# Altium footprint library transistor-power.PCBLIB: 90 footprints (part 6 of 6)
Each footprint in its own frame and in the unit in brackets; x right, y up, seen from the top. Pads: shape width x height; smd on the part's side, far side on the other; paste and mask are expansions set on the pad; w line width, h text height; cw(c..) or ccw(c..) is an arc to the next point about the centre after c.
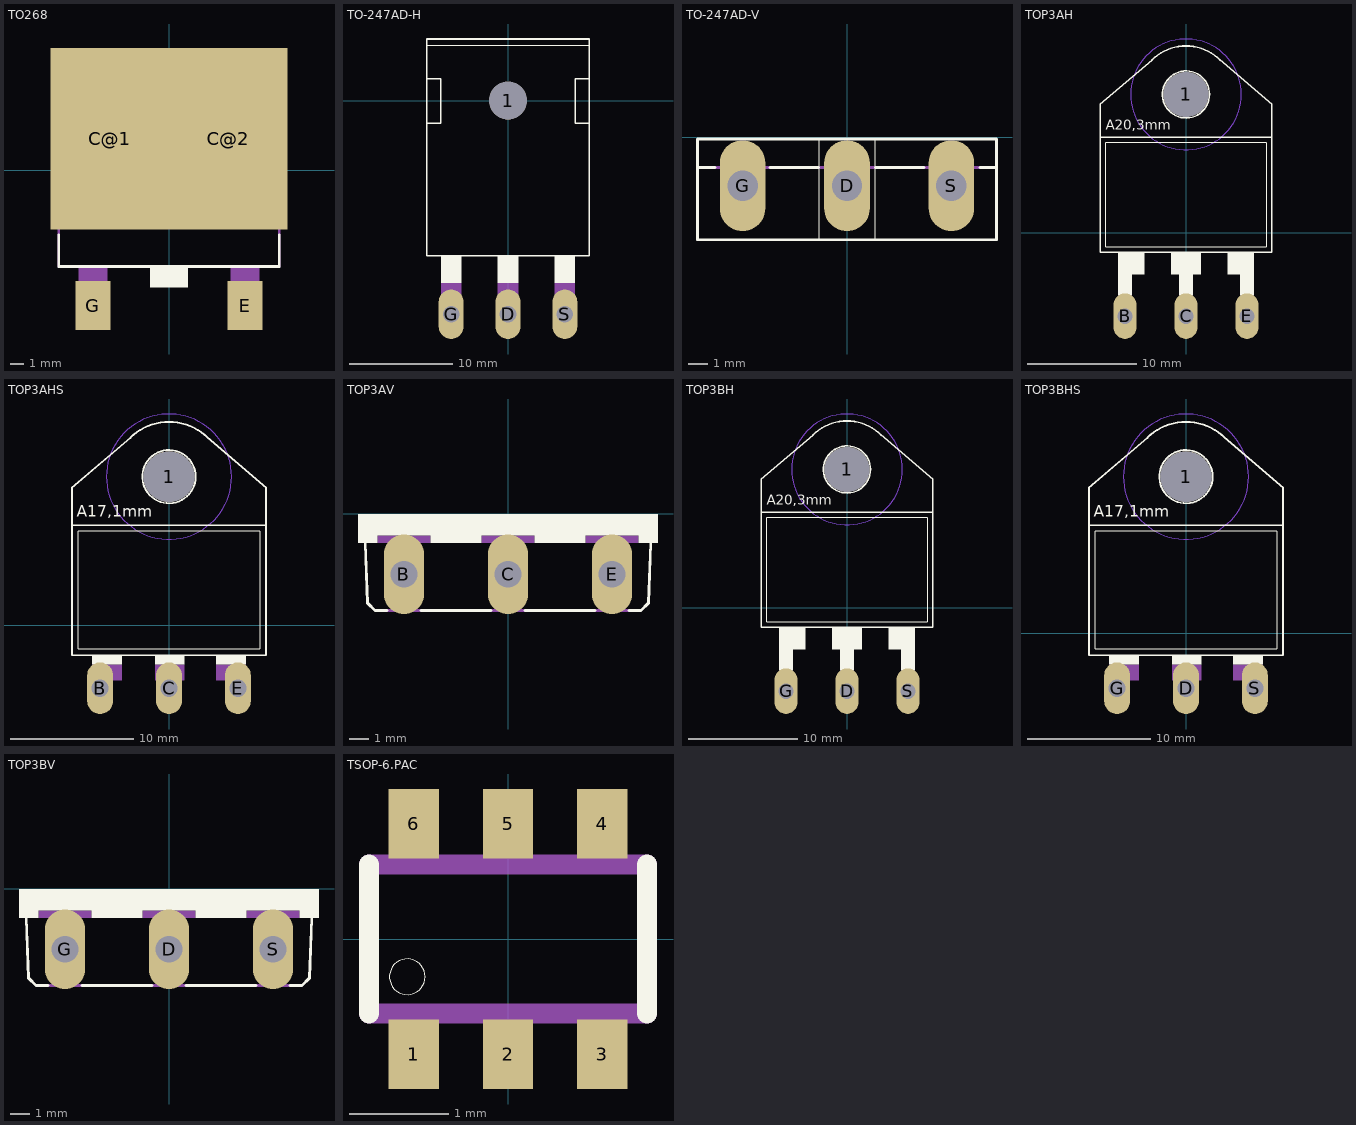
[diagram p5: the footprints below, top view; thin cyan lines are the x and y axes]

## TO268 [mm]
pads (4):
  rect 8.5x13 smd: C@1(-4.25,2.25) C@2(4.25,2.25)
  rect 2.5x3.5 smd: E(5.45,-9.7) G(-5.45,-9.7)
Top Overlay:
  rectangle: -1.35,-8.4 1.35,-7
  lines w0.203: -7.9,-4.65 -7.9,-6.9 7.9,-6.9 7.9,-4.65
Mechanical 16:
  rectangle: -6.5,-8.4 -4.4,-7
  rectangle: 4.4,-8.4 6.5,-7
  rectangle: 4.4,-11.1 6.5,-8.4
  rectangle: -6.5,-11.1 -4.4,-8.4
  lines w0.203: -7.9,-6.9 -7.9,5.3 ; 7.9,-6.9 7.9,5.3 ; -7.9,5.3 -7,6.9 6.95,6.9 7.9,5.3 ; -7.9,5.3 -7.9,6.9 -7.2,8.05 7.2,8.05 7.9,6.9 7.9,5.3

## TO-247AD-H [mil]
pads (4):
  round 143.7 hole 143.7: 1(0,0)
  oval 94.48x188.97 hole 62.99: D(0,-812.99) G(-216.54,-812.99) S(216.54,-812.99)
Top Overlay:
  rectangle: 177.17,-694.88 255.91,-590.55
  rectangle: -39.37,-694.88 39.37,-590.55
  rectangle: -255.91,-694.88 -177.17,-590.55
  lines w2: -307.87,209.45 307.87,209.45
  lines w6: -310,-86.18 -310,-590.55 310,-590.55 310,-86.18 ; -310,-86.18 -310,83.5 ; -310,-86.18 -255.91,-86.18 -255.91,83.5 -310,83.5 ; -310,83.5 -310,234.45 310,234.45 310,83.5 ; 310,-86.18 255.91,-86.18 255.91,83.5 310,83.5 ; 310,-86.18 310,83.5
Mechanical 16:
  rectangle: -255.91,-774.92 -177.17,-694.88
  rectangle: -245,-812.99 -187.01,-774.92
  rectangle: -39.37,-774.92 39.37,-694.92
  rectangle: -25,-812.99 25,-774.92
  rectangle: 177.17,-774.92 255.91,-694.92
  rectangle: 187.01,-812.99 245,-774.92

## TO-247AD-V [mil]
pads (3):
  oval 94.48x188.97 hole 62.99: D(0,-100) G(-216.54,-100) S(216.54,-100)
Top Overlay:
  lines w2.5: -59.06,-210.24 -59.06,-62.6 -59.06,-1.57 ; 59.06,-210.24 59.06,-62.6 59.06,-1.57
  lines w6: -307.09,-62.6 -273.62,-62.6 ; -159.45,-62.6 -59.06,-62.6 ; 59.06,-62.6 159.45,-62.6 ; 275.59,-62.6 309.06,-62.6 ; -310,-212.2 -310,-3.54 310,-3.54 310,-212.2 -310,-212.2
Mechanical 16:
  rectangle: -255.91,-115.75 -177.17,-84.25
  rectangle: -39.37,-115.75 39.37,-84.25
  rectangle: 177.17,-115.75 255.91,-84.25
  lines w6: -310,-62.6 310,-62.6

## TOP3AH [mil]
pads (4):
  round 162 hole 162: 1(0,500)
  oval 82.5x165 hole 55: B(-220,-300) C(0,-300) E(220,-300)
Bottom Layer keep-out:
  circle w0: c0,500 r200
Top Overlay:
  circle w6: c0,500 r85
  rectangle: -245,-150 -150,-70
  rectangle: -55,-150 55,-70
  rectangle: 150,-150 245,-70
  rectangle: -245,-225 -195,-150
  rectangle: -25,-225 25,-150
  rectangle: 195,-225 245,-150
  lines w2: -290,-50 290,-50 290,325 -290,325 -290,-50
  lines w6: -123.74,623.74 cw(c0.01,500) 0,675 cw(c-0.01,500) 123.74,623.74 ; -123,624 -310,465 -310,345 ; 123,625 310,465 310,345 ; -310,345 -310,-70 310,-70 310,345 ; -310,345 310,345
  text "A20,3mm" at -290,360 h62
Mechanical 16:
  rectangle: -245,-300 -195,-225
  rectangle: -25,-300 25,-225
  rectangle: 195,-300 245,-225
Via Holes:
  circle w0: c0,500 r200

## TOP3AHS [mil]
pads (4):
  round 162 hole 162: 1(0,475)
  oval 82.5x165 hole 55: B(-220,-200) C(0,-200) E(220,-200)
Bottom Layer keep-out:
  circle w0: c0,475 r200
Top Overlay:
  circle w6: c0,475 r85
  rectangle: -245,-125 -150,-95
  rectangle: -45,-125 50,-95
  rectangle: 150,-125 245,-95
  lines w2: -290,-75 290,-75 290,300 -290,300 -290,-75
  lines w6: -123.74,598.74 cw(c0.01,475) 0,650 cw(c-0.01,475) 123.74,598.74 ; -123,599 -310,440 -310,320 ; 123,600 310,440 310,320 ; -310,320 -310,-95 310,-95 310,320 ; -310,320 310,320
  text "A17,1mm" at -295,335 h62
Mechanical 16:
  rectangle: -245,-200 -195,-165
  rectangle: -25,-200 25,-165
  rectangle: 195,-200 245,-165
  rectangle: -245,-175 -150,-125
  rectangle: -45,-175 50,-125
  rectangle: 150,-175 245,-125
Via Holes:
  circle w0: c0,475 r200

## TOP3AV [mil]
pads (3):
  oval 82.5x165 hole 55: B(-215,-125) C(0,-125) E(215,-125)
Top Overlay:
  rectangle: -310,-45 310,0
  rectangle: -310,-60 -270,-45
  rectangle: -160,-60 -55,-45
  rectangle: 55,-60 160,-45
  rectangle: 270,-60 310,-45
  lines w6: -295,-60 -290,-185 -275,-200 -250,-200 ; -180,-200 -35,-200 ; 35,-200 180,-200 ; 250,-200 275,-200 290,-185 295,-60
Mechanical 16:
  rectangle: -270,-60 -160,-45
  rectangle: -55,-60 55,-45
  rectangle: 160,-60 270,-45
  lines w6: -250,-200 -180,-200 ; -35,-200 35,-200 ; 180,-200 250,-200

## TOP3BH [mil]
pads (4):
  round 162 hole 162: 1(0,500)
  oval 82.5x165 hole 55: D(0,-300) G(-220,-300) S(220,-300)
Bottom Layer keep-out:
  circle w0: c0,500 r200
Top Overlay:
  circle w6: c0,500 r85
  rectangle: -245,-150 -150,-70
  rectangle: -55,-150 55,-70
  rectangle: 150,-150 245,-70
  rectangle: -245,-225 -195,-150
  rectangle: -25,-225 25,-150
  rectangle: 195,-225 245,-150
  lines w2: -290,-50 290,-50 290,325 -290,325 -290,-50
  lines w6: -123.74,623.74 cw(c0.01,500) 0,675 cw(c-0.01,500) 123.74,623.74 ; -123,624 -310,465 -310,345 ; 123,625 310,465 310,345 ; -310,345 -310,-70 310,-70 310,345 ; -310,345 310,345
  text "A20,3mm" at -290,360 h62
Mechanical 16:
  rectangle: -245,-300 -195,-225
  rectangle: -25,-300 25,-225
  rectangle: 195,-300 245,-225
Via Holes:
  circle w0: c0,500 r200

## TOP3BHS [mil]
pads (4):
  round 162 hole 162: 1(0,500)
  oval 82.5x165 hole 55: D(0,-175) G(-220,-175) S(220,-175)
Bottom Layer keep-out:
  circle w0: c0,500 r200
Top Overlay:
  circle w6: c0,500 r85
  rectangle: -245,-100 -150,-70
  rectangle: -45,-100 50,-70
  rectangle: 150,-100 245,-70
  lines w2: -290,-50 290,-50 290,325 -290,325 -290,-50
  lines w6: -123.74,623.74 cw(c0.01,500) 0,675 cw(c-0.01,500) 123.74,623.74 ; -123,624 -310,465 -310,345 ; 123,625 310,465 310,345 ; -310,345 -310,-70 310,-70 310,345 ; -310,345 310,345
  text "A17,1mm" at -295,360 h62
Mechanical 16:
  rectangle: -245,-175 -195,-140
  rectangle: -25,-175 25,-140
  rectangle: 195,-175 245,-140
  rectangle: -245,-150 -150,-100
  rectangle: -45,-150 50,-100
  rectangle: 150,-150 245,-100
Via Holes:
  circle w0: c0,500 r200

## TOP3BV [mil]
pads (3):
  oval 82.5x165 hole 55: D(0,-125) G(-215,-125) S(215,-125)
Top Overlay:
  rectangle: -310,-45 310,0
  rectangle: -310,-60 -270,-45
  rectangle: -160,-60 -55,-45
  rectangle: 55,-60 160,-45
  rectangle: 270,-60 310,-45
  lines w6: -295,-60 -290,-185 -275,-200 -250,-200 ; -180,-200 -35,-200 ; 35,-200 180,-200 ; 250,-200 275,-200 290,-185 295,-60
Mechanical 16:
  rectangle: -270,-60 -160,-45
  rectangle: -55,-60 55,-45
  rectangle: 160,-60 270,-45
  lines w6: -250,-200 -180,-200 ; -35,-200 35,-200 ; 180,-200 250,-200

## TSOP-6.PAC [mil]
pads (6):
  rect 20x27.56 smd: 1(-37.4,-45.77) 2(0,-45.77) 3(37.4,-45.77) 4(37.4,45.77) 5(0,45.77) 6(-37.4,45.77)
Top Overlay:
  circle w0: c-40,-15 r7.07
  lines w8: -55.12,-29.53 -55.12,29.53 ; 55.12,-29.53 55.12,29.53
Mechanical 16:
  rectangle: -43.31,-56.1 -31.5,-31.5
  region: -31.5,56.1 -43.31,56.1 -43.31,31.5 -31.5,31.5
  rectangle: -5.91,-56.1 5.91,-31.5
  region: 5.91,56.1 -5.91,56.1 -5.91,31.5 5.91,31.5
  rectangle: 31.5,-56.1 43.31,-31.5
  region: 43.31,56.1 31.5,56.1 31.5,31.5 43.31,31.5
  lines w8: -55.12,-29.53 55.12,-29.53 ; -55.12,29.53 55.12,29.53